# Altium schematic symbol library ARE134H.SchLib: 1 symbol
Pins are listed as number, name and electrical type; pins without a type are passive.

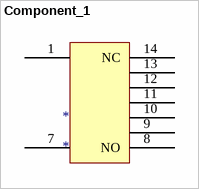
[diagram p0: symbol Component_1]

## Component_1
designator *
pins: 1 (oc), 7 (oc), 8 NO (oc), 9 (oc), 10 (oc), 11 (oc), 12 (oc), 13 (oc), 14 NC (oc)